# EAGLE library part 2X3 (library stiftleisten)
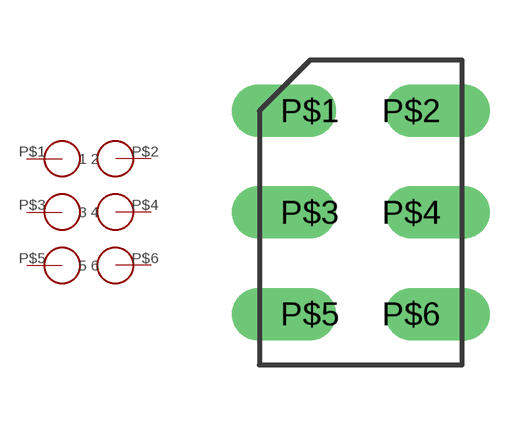
[diagram p2: symbol with the pads of 2X3; footprint 2X3]

Designator prefix -

## 2X3  [2X3]
P$1  1
P$2  2
P$3  3
P$4  4
P$5  5
P$6  6

## Footprint 2X3 (pad centres in mm)
drill 0.8 offset: P$1 -1.27,2.54; P$2 1.27,2.54; P$3 -1.27,0; P$4 1.27,0; P$5 -1.27,-2.54; P$6 1.27,-2.54